# Altium integrated library TI_Logic_Universal_Bus_Function.IntLib: 113 symbols (part 5 of 5)
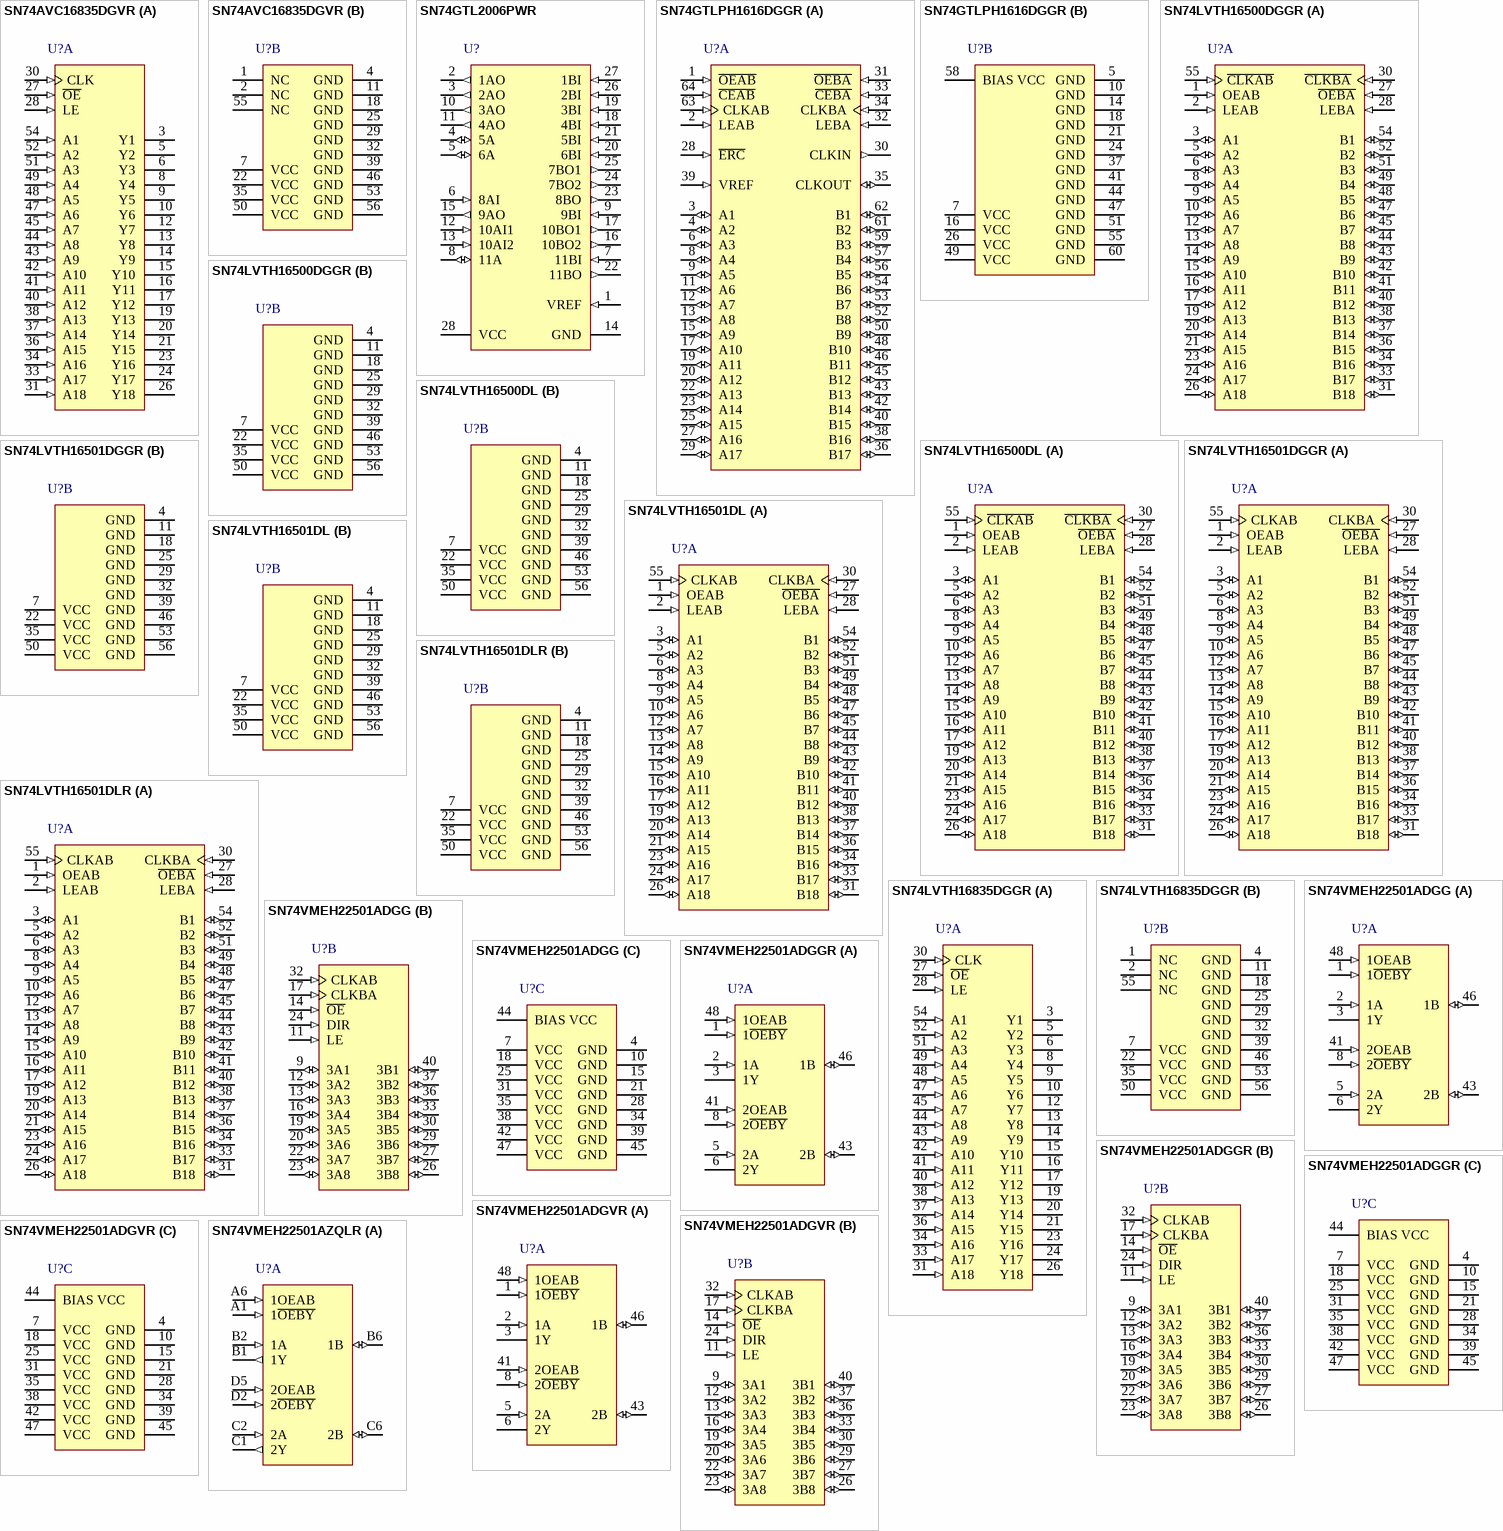
[diagram p13: symbols SN74AVC16835DGVR to SN74VMEH22501AZQLR]

## SN74LVTH16500DL
designator U?
3.3-V ABT 18-Bit Universal Bus Transceivers With 3-State Outputs, DL0056A, TUBE; Generic Part Number: SN74LVTH16500; Manufacturer: Texas Instruments; PartNumber: SN74LVTH16500DL; VCC(Min)(V): 2.7; VCC(Max)(V): 3.6; Output Type: CMOS; ICC @ Nom Voltage(Max)(mA): 5; Input Type: TTL/CMOS; Bits(#): 18; F @ Nom Voltage(Max)(Mhz): 160; Rating: Catalog; Technology Family: LVT; Voltage(Nom)(V): 3.3; Schmitt Trigger: No; Output Drive (IOL/IOH)(Max)(mA): 64/-32; tpd @ Nom Voltage(Max)(ns): 3.7; DatasheetVersion: SCBS701F; PackageReference: DL0056A; Supplier 1: Mouser; Supplier Part Number 1: 595-SN74LVTH16500DL; Supplier 2: Digi-Key; Supplier Part Number 2: 296-8690-5-ND; Operating Temperature Range(C): -40 to 85; ComponentLink1Description: Manufacturer URL; ComponentLink1URL: http://www.ti.com/; ComponentLink2Description: Datasheet; ComponentLink2URL: http://www.ti.com/lit/ds/symlink/sn74lvth16500.pdf
footprint DL0056A_N (SOP, 56-Leads, Body 7.6x18.5mm, Pitch 0.635mm, IPC Medium Density)
footprint DL0056A_M (SOP, 56-Leads, Body 7.6x18.5mm, Pitch 0.635mm, IPC Low Density)
footprint DL0056A_L (SOP, 56-Leads, Body 7.6x18.5mm, Pitch 0.635mm, IPC High Density)
part A pins: 1 OEAB (in), 2 LEAB (in), 3 A1 (io), 5 A2 (io), 6 A3 (io), 8 A4 (io), 9 A5 (io), 10 A6 (io), 12 A7 (io), 13 A8 (io), 14 A9 (io), 15 A10 (io), 16 A11 (io), 17 A12 (io), 19 A13 (io), 20 A14 (io), 21 A15 (io), 23 A16 (io), 24 A17 (io), 26 A18 (io), 27 ~{OEBA} (in), 28 LEBA (in), 30 ~{CLKBA} (in), 31 B18 (io), 33 B17 (io), 34 B16 (io), 36 B15 (io), 37 B14 (io), 38 B13 (io), 40 B12 (io), 41 B11 (io), 42 B10 (io), 43 B9 (io), 44 B8 (io), 45 B7 (io), 47 B6 (io), 48 B5 (io), 49 B4 (io), 51 B3 (io), 52 B2 (io), 54 B1 (io), 55 ~{CLKAB} (in)
part B pins: 4 GND (power), 7 VCC (power), 11 GND (power), 18 GND (power), 22 VCC (power), 25 GND (power), 29 GND (power), 32 GND (power), 35 VCC (power), 39 GND (power), 46 GND (power), 50 VCC (power), 53 GND (power), 56 GND (power)

## SN74LVTH16501DGGR
designator U?
3.3-V ABT 18-Bit Universal Bus Transceivers With 3-State Outputs, DGG0056A, LARGE T&R; Generic Part Number: SN74LVTH16501; Manufacturer: Texas Instruments; PartNumber: SN74LVTH16501DGGR; VCC(Min)(V): 2.7; VCC(Max)(V): 3.6; Output Type: CMOS; ICC @ Nom Voltage(Max)(mA): 5; Input Type: TTL/CMOS; Bits(#): 18; F @ Nom Voltage(Max)(Mhz): 160; Rating: Catalog; Technology Family: LVT; Voltage(Nom)(V): 3.3; Schmitt Trigger: No; Output Drive (IOL/IOH)(Max)(mA): 64/-32; tpd @ Nom Voltage(Max)(ns): 3.7; DatasheetVersion: SCBS700F; PackageReference: DGG0056A; Supplier 1: Mouser; Supplier Part Number 1: 595-SNLVTH16501DGGR; Supplier 2: Digi-Key; Supplier Part Number 2: 296-8691-2-ND; Supplier 3: Digi-Key; Supplier Part Number 3: 296-8691-1-ND; Supplier 4: Digi-Key; Supplier Part Number 4: 296-8691-6-ND; Operating Temperature Range(C): -40 to 85; ComponentLink1Description: Manufacturer URL; ComponentLink1URL: http://www.ti.com/; ComponentLink2Description: Datasheet; ComponentLink2URL: http://www.ti.com/lit/ds/symlink/sn74lvth16501.pdf
footprint DGG0056A_N (TSSOP, 56-Leads, Body 14.1x6.2mm, Pitch 0.5mm, IPC Medium Density)
footprint DGG0056A_M (TSSOP, 56-Leads, Body 14.1x6.2mm, Pitch 0.5mm, IPC Low Density)
footprint DGG0056A_L (TSSOP, 56-Leads, Body 14.1x6.2mm, Pitch 0.5mm, IPC High Density)
part A pins: 1 OEAB (in), 2 LEAB (in), 3 A1 (io), 5 A2 (io), 6 A3 (io), 8 A4 (io), 9 A5 (io), 10 A6 (io), 12 A7 (io), 13 A8 (io), 14 A9 (io), 15 A10 (io), 16 A11 (io), 17 A12 (io), 19 A13 (io), 20 A14 (io), 21 A15 (io), 23 A16 (io), 24 A17 (io), 26 A18 (io), 27 ~{OEBA} (in), 28 LEBA (in), 30 CLKBA (in), 31 B18 (io), 33 B17 (io), 34 B16 (io), 36 B15 (io), 37 B14 (io), 38 B13 (io), 40 B12 (io), 41 B11 (io), 42 B10 (io), 43 B9 (io), 44 B8 (io), 45 B7 (io), 47 B6 (io), 48 B5 (io), 49 B4 (io), 51 B3 (io), 52 B2 (io), 54 B1 (io), 55 CLKAB (in)
part B pins: 4 GND (power), 7 VCC (power), 11 GND (power), 18 GND (power), 22 VCC (power), 25 GND (power), 29 GND (power), 32 GND (power), 35 VCC (power), 39 GND (power), 46 GND (power), 50 VCC (power), 53 GND (power), 56 GND (power)

## SN74LVTH16501DL
designator U?
3.3-V ABT 18-Bit Universal Bus Transceivers With 3-State Outputs, DL0056A, TUBE; Generic Part Number: SN74LVTH16501; Manufacturer: Texas Instruments; PartNumber: SN74LVTH16501DL; VCC(Min)(V): 2.7; VCC(Max)(V): 3.6; Output Type: CMOS; ICC @ Nom Voltage(Max)(mA): 5; Input Type: TTL/CMOS; Bits(#): 18; F @ Nom Voltage(Max)(Mhz): 160; Rating: Catalog; Technology Family: LVT; Voltage(Nom)(V): 3.3; Schmitt Trigger: No; Output Drive (IOL/IOH)(Max)(mA): 64/-32; tpd @ Nom Voltage(Max)(ns): 3.7; DatasheetVersion: SCBS700F; PackageReference: DL0056A; Supplier 1: Mouser; Supplier Part Number 1: 595-SN74LVTH16501DL; Supplier 2: Digi-Key; Supplier Part Number 2: 296-8692-5-ND; Operating Temperature Range(C): -40 to 85; ComponentLink1Description: Manufacturer URL; ComponentLink1URL: http://www.ti.com/; ComponentLink2Description: Datasheet; ComponentLink2URL: http://www.ti.com/lit/ds/symlink/sn74lvth16501.pdf
footprint DL0056A_N (SOP, 56-Leads, Body 7.6x18.5mm, Pitch 0.635mm, IPC Medium Density)
footprint DL0056A_M (SOP, 56-Leads, Body 7.6x18.5mm, Pitch 0.635mm, IPC Low Density)
footprint DL0056A_L (SOP, 56-Leads, Body 7.6x18.5mm, Pitch 0.635mm, IPC High Density)
part A pins: 1 OEAB (in), 2 LEAB (in), 3 A1 (io), 5 A2 (io), 6 A3 (io), 8 A4 (io), 9 A5 (io), 10 A6 (io), 12 A7 (io), 13 A8 (io), 14 A9 (io), 15 A10 (io), 16 A11 (io), 17 A12 (io), 19 A13 (io), 20 A14 (io), 21 A15 (io), 23 A16 (io), 24 A17 (io), 26 A18 (io), 27 ~{OEBA} (in), 28 LEBA (in), 30 CLKBA (in), 31 B18 (io), 33 B17 (io), 34 B16 (io), 36 B15 (io), 37 B14 (io), 38 B13 (io), 40 B12 (io), 41 B11 (io), 42 B10 (io), 43 B9 (io), 44 B8 (io), 45 B7 (io), 47 B6 (io), 48 B5 (io), 49 B4 (io), 51 B3 (io), 52 B2 (io), 54 B1 (io), 55 CLKAB (in)
part B pins: 4 GND (power), 7 VCC (power), 11 GND (power), 18 GND (power), 22 VCC (power), 25 GND (power), 29 GND (power), 32 GND (power), 35 VCC (power), 39 GND (power), 46 GND (power), 50 VCC (power), 53 GND (power), 56 GND (power)

## SN74LVTH16501DLR
designator U?
3.3-V ABT 18-Bit Universal Bus Transceivers With 3-State Outputs, DL0056A, LARGE T&R; Generic Part Number: SN74LVTH16501; Manufacturer: Texas Instruments; PartNumber: SN74LVTH16501DLR; VCC(Min)(V): 2.7; VCC(Max)(V): 3.6; Output Type: CMOS; ICC @ Nom Voltage(Max)(mA): 5; Input Type: TTL/CMOS; Bits(#): 18; F @ Nom Voltage(Max)(Mhz): 160; Rating: Catalog; Technology Family: LVT; Voltage(Nom)(V): 3.3; Schmitt Trigger: No; Output Drive (IOL/IOH)(Max)(mA): 64/-32; tpd @ Nom Voltage(Max)(ns): 3.7; DatasheetVersion: SCBS700F; PackageReference: DL0056A; Supplier 1: Mouser; Supplier Part Number 1: 595-SN74LVTH16501DLR; Supplier 2: Digi-Key; Supplier Part Number 2: 296-14930-2-ND; Supplier 3: Digi-Key; Supplier Part Number 3: 296-14930-1-ND; Supplier 4: Digi-Key; Supplier Part Number 4: 296-14930-6-ND; Operating Temperature Range(C): -40 to 85; ComponentLink1Description: Manufacturer URL; ComponentLink1URL: http://www.ti.com/; ComponentLink2Description: Datasheet; ComponentLink2URL: http://www.ti.com/lit/ds/symlink/sn74lvth16501.pdf
footprint DL0056A_N (SOP, 56-Leads, Body 7.6x18.5mm, Pitch 0.635mm, IPC Medium Density)
footprint DL0056A_M (SOP, 56-Leads, Body 7.6x18.5mm, Pitch 0.635mm, IPC Low Density)
footprint DL0056A_L (SOP, 56-Leads, Body 7.6x18.5mm, Pitch 0.635mm, IPC High Density)
part A pins: 1 OEAB (in), 2 LEAB (in), 3 A1 (io), 5 A2 (io), 6 A3 (io), 8 A4 (io), 9 A5 (io), 10 A6 (io), 12 A7 (io), 13 A8 (io), 14 A9 (io), 15 A10 (io), 16 A11 (io), 17 A12 (io), 19 A13 (io), 20 A14 (io), 21 A15 (io), 23 A16 (io), 24 A17 (io), 26 A18 (io), 27 ~{OEBA} (in), 28 LEBA (in), 30 CLKBA (in), 31 B18 (io), 33 B17 (io), 34 B16 (io), 36 B15 (io), 37 B14 (io), 38 B13 (io), 40 B12 (io), 41 B11 (io), 42 B10 (io), 43 B9 (io), 44 B8 (io), 45 B7 (io), 47 B6 (io), 48 B5 (io), 49 B4 (io), 51 B3 (io), 52 B2 (io), 54 B1 (io), 55 CLKAB (in)
part B pins: 4 GND (power), 7 VCC (power), 11 GND (power), 18 GND (power), 22 VCC (power), 25 GND (power), 29 GND (power), 32 GND (power), 35 VCC (power), 39 GND (power), 46 GND (power), 50 VCC (power), 53 GND (power), 56 GND (power)

## SN74LVTH16835DGGR
designator U?
3.3-V ABT 18-Bit Universal Bus Drivers With 3-State Outputs, DGG0056A, LARGE T&R; Generic Part Number: SN74LVTH16835; Manufacturer: Texas Instruments; PartNumber: SN74LVTH16835DGGR; VCC(Min)(V): 2.7; VCC(Max)(V): 3.6; Output Type: CMOS; ICC @ Nom Voltage(Max)(mA): 5; Input Type: LVTTL/CMOS; Bits(#): 18; F @ Nom Voltage(Max)(Mhz): 160; Rating: Catalog; Technology Family: LVT; Voltage(Nom)(V): 2.5,3.3; DatasheetVersion: SCBS713C; PackageReference: DGG0056A; Operating Temperature Range(C): -40 to 85; Code_JEDEC: MO-153; ComponentLink1Description: Manufacturer URL; ComponentLink1URL: http://www.ti.com/; ComponentLink2Description: Datasheet; ComponentLink2URL: http://www.ti.com/lit/ds/symlink/sn74lvth16835.pdf; ComponentLink3Description: Package Specification; ComponentLink3URL: http://www.ti.com/lit/ml/mtss003d/mtss003d.pdf
footprint DGG0056A_N (TSSOP, 56-Leads, Body 14.1x6.2mm, Pitch 0.5mm, IPC Medium Density)
footprint DGG0056A_M (TSSOP, 56-Leads, Body 14.1x6.2mm, Pitch 0.5mm, IPC Low Density)
footprint DGG0056A_L (TSSOP, 56-Leads, Body 14.1x6.2mm, Pitch 0.5mm, IPC High Density)
part A pins: 3 Y1 (hiz), 5 Y2 (hiz), 6 Y3 (hiz), 8 Y4 (hiz), 9 Y5 (hiz), 10 Y6 (hiz), 12 Y7 (hiz), 13 Y8 (hiz), 14 Y9 (hiz), 15 Y10 (hiz), 16 Y11 (hiz), 17 Y12 (hiz), 19 Y13 (hiz), 20 Y14 (hiz), 21 Y15 (hiz), 23 Y16 (hiz), 24 Y17 (hiz), 26 Y18 (hiz), 27 ~{OE} (in), 28 LE (in), 30 CLK (in), 31 A18 (in), 33 A17 (in), 34 A16 (in), 36 A15 (in), 37 A14 (in), 38 A13 (in), 40 A12 (in), 41 A11 (in), 42 A10 (in), 43 A9 (in), 44 A8 (in), 45 A7 (in), 47 A6 (in), 48 A5 (in), 49 A4 (in), 51 A3 (in), 52 A2 (in), 54 A1 (in)
part B pins: 1 NC, 2 NC, 4 GND (power), 7 VCC (power), 11 GND (power), 18 GND (power), 22 VCC (power), 25 GND (power), 29 GND (power), 32 GND (power), 35 VCC (power), 39 GND (power), 46 GND (power), 50 VCC (power), 53 GND (power), 55 NC, 56 GND (power)

## SN74VMEH22501ADGG
designator U?
8-Bit Universal Bus Transceiver and Two 1-Bit Bus Transceivers with 3-State Outputs, DGG0048A, TUBE; Generic Part Number: SN74VMEH22501A; Manufacturer: Texas Instruments; PartNumber: SN74VMEH22501ADGG; VCC(Min)(V): 3.15; VCC(Max)(V): 3.45; Output Type: LVTTL; Logic: True; Static Current: 30; Bits(#): 10; F @ Nom Voltage(Max)(Mhz): 120; Rating: Catalog; Technology Family: VME; Voltage(Nom)(V): 3.3; Schmitt Trigger: No; Output Drive (IOL/IOH)(Max)(mA): -12/12; tpd @ Nom Voltage(Max)(ns): 8.9; DatasheetVersion: SCES3620A; PackageReference: DGG0048A; Supplier 1: Mouser; Supplier Part Number 1: N/A; ICC @ Nom Voltage(Max)(mA): 30; Input Type: LVTTL; Operating Temperature Range(C): -40 to 85; ComponentLink1Description: Manufacturer URL; ComponentLink1URL: http://www.ti.com/; ComponentLink2Description: Datasheet; ComponentLink2URL: http://www.ti.com/lit/ds/symlink/sn74vmeh22501a.pdf
footprint DGG0048A_N (TSSOP, 48-Leads, Body 12.6x6.2mm, Pitch 0.5mm, IPC Medium Density)
footprint DGG0048A_M (TSSOP, 48-Leads, Body 12.6x6.2mm, Pitch 0.5mm, IPC Low Density)
footprint DGG0048A_L (TSSOP, 48-Leads, Body 12.6x6.2mm, Pitch 0.5mm, IPC High Density)
part A pins: 1 1~{OEBY} (in), 2 1A (in), 3 1Y (hiz), 5 2A (in), 6 2Y (hiz), 8 2~{OEBY} (in), 41 2OEAB (in), 43 2B (io), 46 1B (io), 48 1OEAB (in)
part B pins: 9 3A1 (io), 11 LE (in), 12 3A2 (io), 13 3A3 (io), 14 ~{OE} (in), 16 3A4 (io), 17 CLKBA (in), 19 3A5 (io), 20 3A6 (io), 22 3A7 (io), 23 3A8 (io), 24 DIR (in), 26 3B8 (io), 27 3B7 (io), 29 3B6 (io), 30 3B5 (io), 32 CLKAB (in), 33 3B4 (io), 36 3B3 (io), 37 3B2 (io), 40 3B1 (io)
part C pins: 4 GND (power), 7 VCC (power), 10 GND (power), 15 GND (power), 18 VCC (power), 21 GND (power), 25 VCC (power), 28 GND (power), 31 VCC (power), 34 GND (power), 35 VCC (power), 38 VCC (power), 39 GND (power), 42 VCC (power), 44 BIAS VCC (power), 45 GND (power), 47 VCC (power)

## SN74VMEH22501ADGGR
designator U?
8-Bit Universal Bus Transceiver and Two 1-Bit Bus Transceivers with 3-State Outputs, DGG0048A, LARGE T&R; Generic Part Number: SN74VMEH22501A; Manufacturer: Texas Instruments; PartNumber: SN74VMEH22501ADGGR; VCC(Min)(V): 3.15; VCC(Max)(V): 3.45; Output Type: LVTTL; Logic: True; Static Current: 30; Bits(#): 10; F @ Nom Voltage(Max)(Mhz): 120; Rating: Catalog; Technology Family: VME; Voltage(Nom)(V): 3.3; Schmitt Trigger: No; Output Drive (IOL/IOH)(Max)(mA): -12/12; tpd @ Nom Voltage(Max)(ns): 8.9; DatasheetVersion: SCES3620A; PackageReference: DGG0048A; Supplier 1: Mouser; Supplier Part Number 1: 595-SN74VMEH22501AGR; Supplier 2: Digi-Key; Supplier Part Number 2: 296-17565-2-ND; Supplier 3: Digi-Key; Supplier Part Number 3: 296-17565-1-ND; Supplier 4: Digi-Key; Supplier Part Number 4: 296-17565-6-ND; ICC @ Nom Voltage(Max)(mA): 30; Input Type: LVTTL; Operating Temperature Range(C): -40 to 85; ComponentLink1Description: Manufacturer URL; ComponentLink1URL: http://www.ti.com/; ComponentLink2Description: Datasheet; ComponentLink2URL: http://www.ti.com/lit/ds/symlink/sn74vmeh22501a.pdf
footprint DGG0048A_N (TSSOP, 48-Leads, Body 12.6x6.2mm, Pitch 0.5mm, IPC Medium Density)
footprint DGG0048A_M (TSSOP, 48-Leads, Body 12.6x6.2mm, Pitch 0.5mm, IPC Low Density)
footprint DGG0048A_L (TSSOP, 48-Leads, Body 12.6x6.2mm, Pitch 0.5mm, IPC High Density)
part A pins: 1 1~{OEBY} (in), 2 1A (in), 3 1Y (hiz), 5 2A (in), 6 2Y (hiz), 8 2~{OEBY} (in), 41 2OEAB (in), 43 2B (io), 46 1B (io), 48 1OEAB (in)
part B pins: 9 3A1 (io), 11 LE (in), 12 3A2 (io), 13 3A3 (io), 14 ~{OE} (in), 16 3A4 (io), 17 CLKBA (in), 19 3A5 (io), 20 3A6 (io), 22 3A7 (io), 23 3A8 (io), 24 DIR (in), 26 3B8 (io), 27 3B7 (io), 29 3B6 (io), 30 3B5 (io), 32 CLKAB (in), 33 3B4 (io), 36 3B3 (io), 37 3B2 (io), 40 3B1 (io)
part C pins: 4 GND (power), 7 VCC (power), 10 GND (power), 15 GND (power), 18 VCC (power), 21 GND (power), 25 VCC (power), 28 GND (power), 31 VCC (power), 34 GND (power), 35 VCC (power), 38 VCC (power), 39 GND (power), 42 VCC (power), 44 BIAS VCC (power), 45 GND (power), 47 VCC (power)

## SN74VMEH22501ADGVR
designator U?
8-Bit Universal Bus Transceiver and Two 1-Bit Bus Transceivers with 3-State Outputs, DGV0048A, LARGE T&R; Generic Part Number: SN74VMEH22501A; Manufacturer: Texas Instruments; PartNumber: SN74VMEH22501ADGVR; VCC(Min)(V): 3.15; VCC(Max)(V): 3.45; Output Type: LVTTL; Logic: True; Static Current: 30; Bits(#): 10; F @ Nom Voltage(Max)(Mhz): 120; Rating: Catalog; Technology Family: VME; Voltage(Nom)(V): 3.3; Schmitt Trigger: No; Output Drive (IOL/IOH)(Max)(mA): -12/12; tpd @ Nom Voltage(Max)(ns): 8.9; DatasheetVersion: SCES3620A; PackageReference: DGV0048A; Supplier 1: Mouser; Supplier Part Number 1: 595-SN74VMEH22501ADG; Supplier 2: Digi-Key; Supplier Part Number 2: 296-17566-2-ND; Supplier 3: Digi-Key; Supplier Part Number 3: 296-17566-1-ND; Supplier 4: Digi-Key; Supplier Part Number 4: 296-17566-6-ND; ICC @ Nom Voltage(Max)(mA): 30; Input Type: LVTTL; Operating Temperature Range(C): -40 to 85; ComponentLink1Description: Manufacturer URL; ComponentLink1URL: http://www.ti.com/; ComponentLink2Description: Datasheet; ComponentLink2URL: http://www.ti.com/lit/ds/symlink/sn74vmeh22501a.pdf
footprint DGV0048A_N (SOP, 48-Leads, Body 4.5x9.8mm, Pitch 0.4mm, IPC Medium Density)
footprint DGV0048A_M (SOP, 48-Leads, Body 4.5x9.8mm, Pitch 0.4mm, IPC Low Density)
footprint DGV0048A_L (SOP, 48-Leads, Body 4.5x9.8mm, Pitch 0.4mm, IPC High Density)
part A pins: 1 1~{OEBY} (in), 2 1A (in), 3 1Y (hiz), 5 2A (in), 6 2Y (hiz), 8 2~{OEBY} (in), 41 2OEAB (in), 43 2B (io), 46 1B (io), 48 1OEAB (in)
part B pins: 9 3A1 (io), 11 LE (in), 12 3A2 (io), 13 3A3 (io), 14 ~{OE} (in), 16 3A4 (io), 17 CLKBA (in), 19 3A5 (io), 20 3A6 (io), 22 3A7 (io), 23 3A8 (io), 24 DIR (in), 26 3B8 (io), 27 3B7 (io), 29 3B6 (io), 30 3B5 (io), 32 CLKAB (in), 33 3B4 (io), 36 3B3 (io), 37 3B2 (io), 40 3B1 (io)
part C pins: 4 GND (power), 7 VCC (power), 10 GND (power), 15 GND (power), 18 VCC (power), 21 GND (power), 25 VCC (power), 28 GND (power), 31 VCC (power), 34 GND (power), 35 VCC (power), 38 VCC (power), 39 GND (power), 42 VCC (power), 44 BIAS VCC (power), 45 GND (power), 47 VCC (power)

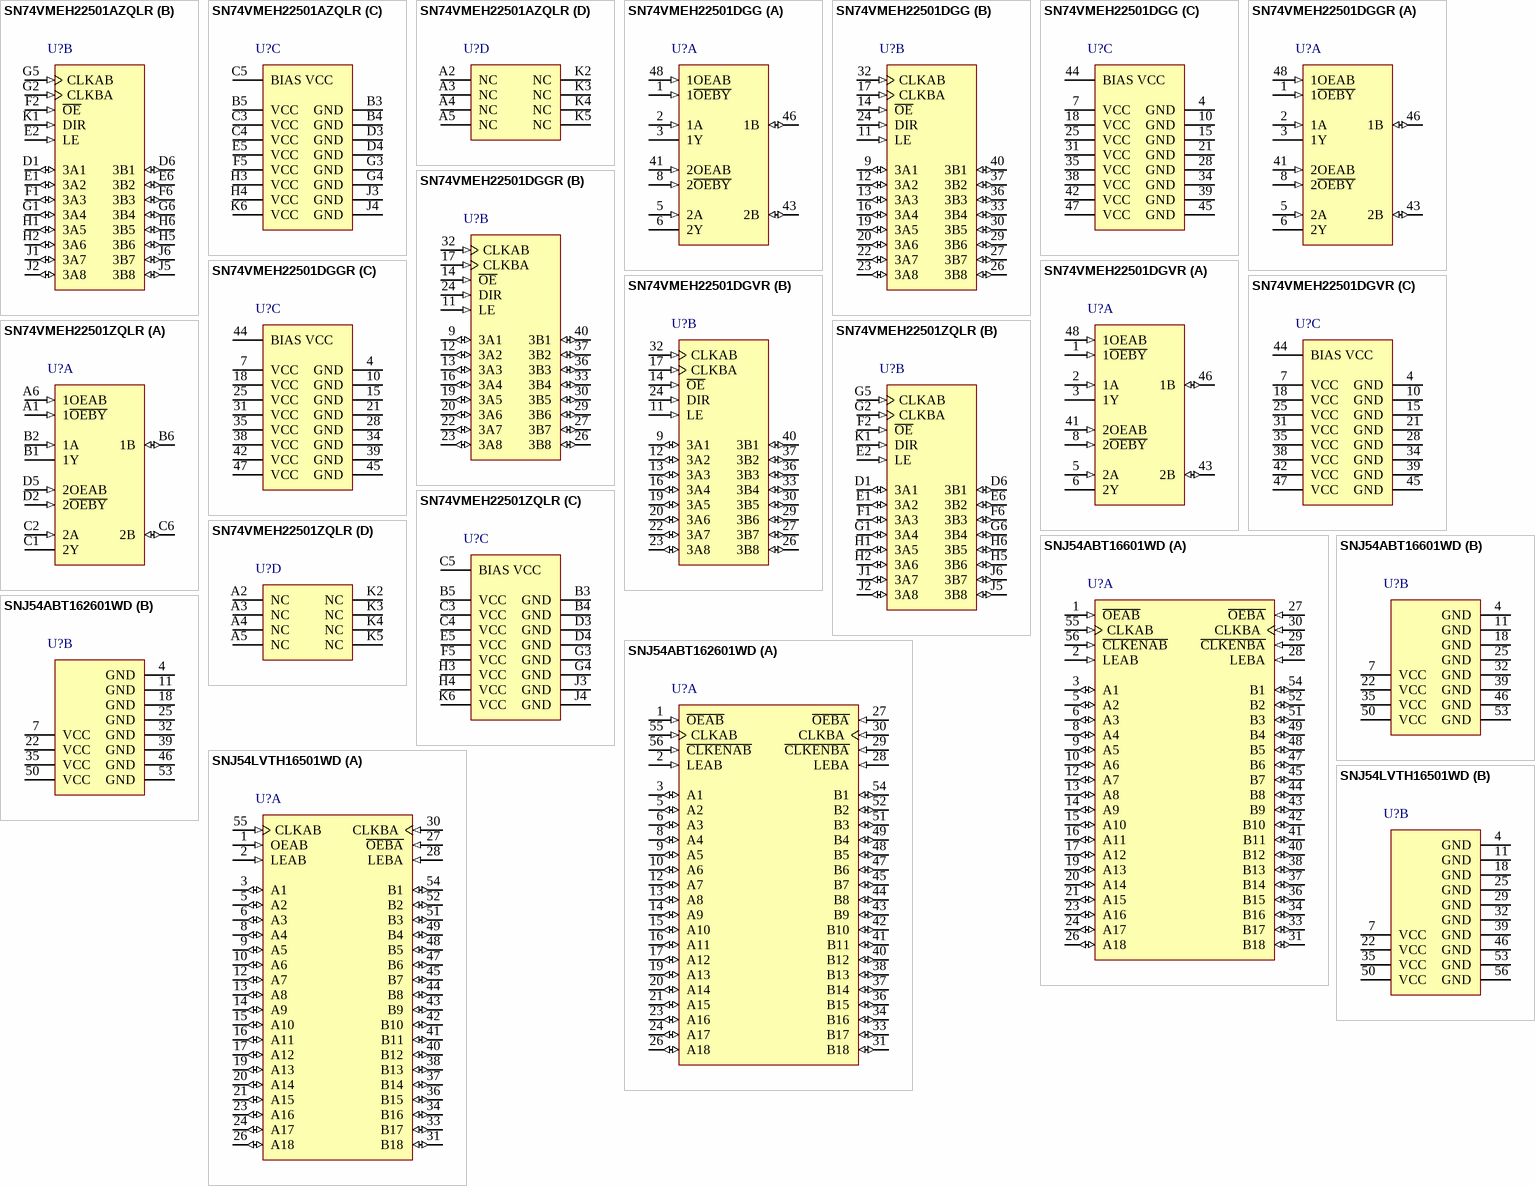
[diagram p9: symbols SN74VMEH22501AZQLR to SNJ54LVTH16501WD]

## SN74VMEH22501AZQLR
designator U?
8-Bit Universal Bus Transceiver and Two 1-Bit Bus Transceivers with 3-State Outputs, ZQL0056A, LARGE T&R; Generic Part Number: SN74VMEH22501A; Manufacturer: Texas Instruments; PartNumber: SN74VMEH22501AZQLR; VCC(Min)(V): 3.15; VCC(Max)(V): 3.45; Output Type: LVTTL; Logic: True; Static Current: 30; Bits(#): 10; F @ Nom Voltage(Max)(Mhz): 120; Rating: Catalog; Technology Family: VME; Voltage(Nom)(V): 3.3; Schmitt Trigger: No; Output Drive (IOL/IOH)(Max)(mA): -12/12; tpd @ Nom Voltage(Max)(ns): 8.9; DatasheetVersion: SCES3620A; PackageReference: ZQL0056A; Supplier 1: Mouser; Supplier Part Number 1: 595-SN74VMEH22501AZQ; Supplier 2: Digi-Key; Supplier Part Number 2: 296-23294-2-ND; Supplier 3: Digi-Key; Supplier Part Number 3: 296-23294-1-ND; Supplier 4: Digi-Key; Supplier Part Number 4: 296-23294-6-ND; ICC @ Nom Voltage(Max)(mA): 30; Input Type: LVTTL; Operating Temperature Range(C): -40 to 85; ComponentLink1Description: Manufacturer URL; ComponentLink1URL: http://www.ti.com/; ComponentLink2Description: Datasheet; ComponentLink2URL: http://www.ti.com/lit/ds/symlink/sn74vmeh22501a.pdf
footprint ZQL0056A (BGA, 56-Balls, Body 7x4.5mm, Pitch 0.65mm)
part A pins: A1 1~{OEBY} (in), A6 1OEAB (in), B1 1Y (out), B2 1A (in), B6 1B (io), C1 2Y (out), C2 2A (in), C6 2B (io), D2 2~{OEBY} (in), D5 2OEAB (in)
part B pins: D1 3A1 (io), D6 3B1 (io), E1 3A2 (io), E2 LE (in), E6 3B2 (io), F1 3A3 (io), F2 ~{OE} (in), F6 3B3 (io), G1 3A4 (io), G2 CLKBA (in), G5 CLKAB (in), G6 3B4 (io), H1 3A5 (io), H2 3A6 (io), H5 3B6 (io), H6 3B5 (io), J1 3A7 (io), J2 3A8 (io), J5 3B8 (io), J6 3B7 (io), K1 DIR (in)
part C pins: B3 GND (power), B4 GND (power), B5 VCC (power), C3 VCC (power), C4 VCC (power), C5 BIAS VCC (power), D3 GND (power), D4 GND (power), E5 VCC (power), F5 VCC (power), G3 GND (power), G4 GND (power), H3 VCC (power), H4 VCC (power), J3 GND (power), J4 GND (power), K6 VCC (power)
part D pins: A2 NC, A3 NC, A4 NC, A5 NC, K2 NC, K3 NC, K4 NC, K5 NC

## SN74VMEH22501DGG
designator U?
8-Bit Universal Bus Transceiver and Two 1-Bit Bus Transceivers with 3-State Outputs, DGG0048A, TUBE; Generic Part Number: SN74VMEH22501; Manufacturer: Texas Instruments; PartNumber: SN74VMEH22501DGG; VCC(Min)(V): 3.15; VCC(Max)(V): 3.45; Output Type: LVTTL; Logic: True; Static Current: 30; Bits(#): 10; F @ Nom Voltage(Max)(Mhz): 120; Rating: Catalog; Technology Family: VME; Voltage(Nom)(V): 3.3; Schmitt Trigger: No; Output Drive (IOL/IOH)(Max)(mA): -12/12; tpd @ Nom Voltage(Max)(ns): 8.9; DatasheetVersion: SCES357F; PackageReference: DGG0048A; Supplier 1: Mouser; Supplier Part Number 1: N/A; ICC @ Nom Voltage(Max)(mA): 30; Input Type: LVTTL; Operating Temperature Range(C): -40 to 85,0 to 85; ComponentLink1Description: Manufacturer URL; ComponentLink1URL: http://www.ti.com/; ComponentLink2Description: Datasheet; ComponentLink2URL: http://www.ti.com/lit/ds/symlink/sn74vmeh22501.pdf
footprint DGG0048A_N (TSSOP, 48-Leads, Body 12.6x6.2mm, Pitch 0.5mm, IPC Medium Density)
footprint DGG0048A_M (TSSOP, 48-Leads, Body 12.6x6.2mm, Pitch 0.5mm, IPC Low Density)
footprint DGG0048A_L (TSSOP, 48-Leads, Body 12.6x6.2mm, Pitch 0.5mm, IPC High Density)
part A pins: 1 1~{OEBY} (in), 2 1A (in), 3 1Y (hiz), 5 2A (in), 6 2Y (hiz), 8 2~{OEBY} (in), 41 2OEAB (in), 43 2B (io), 46 1B (io), 48 1OEAB (in)
part B pins: 9 3A1 (io), 11 LE (in), 12 3A2 (io), 13 3A3 (io), 14 ~{OE} (in), 16 3A4 (io), 17 CLKBA (in), 19 3A5 (io), 20 3A6 (io), 22 3A7 (io), 23 3A8 (io), 24 DIR (in), 26 3B8 (io), 27 3B7 (io), 29 3B6 (io), 30 3B5 (io), 32 CLKAB (in), 33 3B4 (io), 36 3B3 (io), 37 3B2 (io), 40 3B1 (io)
part C pins: 4 GND (power), 7 VCC (power), 10 GND (power), 15 GND (power), 18 VCC (power), 21 GND (power), 25 VCC (power), 28 GND (power), 31 VCC (power), 34 GND (power), 35 VCC (power), 38 VCC (power), 39 GND (power), 42 VCC (power), 44 BIAS VCC (power), 45 GND (power), 47 VCC (power)

## SN74VMEH22501DGGR
designator U?
8-Bit Universal Bus Transceiver and Two 1-Bit Bus Transceivers with 3-State Outputs, DGG0048A, LARGE T&R; Generic Part Number: SN74VMEH22501; Manufacturer: Texas Instruments; PartNumber: SN74VMEH22501DGGR; VCC(Min)(V): 3.15; VCC(Max)(V): 3.45; Output Type: LVTTL; Logic: True; Static Current: 30; Bits(#): 10; F @ Nom Voltage(Max)(Mhz): 120; Rating: Catalog; Technology Family: VME; Voltage(Nom)(V): 3.3; Schmitt Trigger: No; Output Drive (IOL/IOH)(Max)(mA): -12/12; tpd @ Nom Voltage(Max)(ns): 8.9; DatasheetVersion: SCES357F; PackageReference: DGG0048A; Supplier 1: Mouser; Supplier Part Number 1: 595-74VMEH22501DGGR; Supplier 2: Digi-Key; Supplier Part Number 2: 296-13309-2-ND; Supplier 3: Digi-Key; Supplier Part Number 3: 296-13309-1-ND; Supplier 4: Digi-Key; Supplier Part Number 4: 296-13309-6-ND; ICC @ Nom Voltage(Max)(mA): 30; Input Type: LVTTL; Operating Temperature Range(C): -40 to 85,0 to 85; ComponentLink1Description: Manufacturer URL; ComponentLink1URL: http://www.ti.com/; ComponentLink2Description: Datasheet; ComponentLink2URL: http://www.ti.com/lit/ds/symlink/sn74vmeh22501.pdf
footprint DGG0048A_N (TSSOP, 48-Leads, Body 12.6x6.2mm, Pitch 0.5mm, IPC Medium Density)
footprint DGG0048A_M (TSSOP, 48-Leads, Body 12.6x6.2mm, Pitch 0.5mm, IPC Low Density)
footprint DGG0048A_L (TSSOP, 48-Leads, Body 12.6x6.2mm, Pitch 0.5mm, IPC High Density)
part A pins: 1 1~{OEBY} (in), 2 1A (in), 3 1Y (hiz), 5 2A (in), 6 2Y (hiz), 8 2~{OEBY} (in), 41 2OEAB (in), 43 2B (io), 46 1B (io), 48 1OEAB (in)
part B pins: 9 3A1 (io), 11 LE (in), 12 3A2 (io), 13 3A3 (io), 14 ~{OE} (in), 16 3A4 (io), 17 CLKBA (in), 19 3A5 (io), 20 3A6 (io), 22 3A7 (io), 23 3A8 (io), 24 DIR (in), 26 3B8 (io), 27 3B7 (io), 29 3B6 (io), 30 3B5 (io), 32 CLKAB (in), 33 3B4 (io), 36 3B3 (io), 37 3B2 (io), 40 3B1 (io)
part C pins: 4 GND (power), 7 VCC (power), 10 GND (power), 15 GND (power), 18 VCC (power), 21 GND (power), 25 VCC (power), 28 GND (power), 31 VCC (power), 34 GND (power), 35 VCC (power), 38 VCC (power), 39 GND (power), 42 VCC (power), 44 BIAS VCC (power), 45 GND (power), 47 VCC (power)

## SN74VMEH22501DGVR
designator U?
8-Bit Universal Bus Transceiver and Two 1-Bit Bus Transceivers with 3-State Outputs, DGV0048A, LARGE T&R; Generic Part Number: SN74VMEH22501; Manufacturer: Texas Instruments; PartNumber: SN74VMEH22501DGVR; VCC(Min)(V): 3.15; VCC(Max)(V): 3.45; Output Type: LVTTL; Logic: True; Static Current: 30; Bits(#): 10; F @ Nom Voltage(Max)(Mhz): 120; Rating: Catalog; Technology Family: VME; Voltage(Nom)(V): 3.3; Schmitt Trigger: No; Output Drive (IOL/IOH)(Max)(mA): -12/12; tpd @ Nom Voltage(Max)(ns): 8.9; DatasheetVersion: SCES357F; PackageReference: DGV0048A; Supplier 1: Mouser; Supplier Part Number 1: 595-74VMEH22501DGVR; Supplier 2: Digi-Key; Supplier Part Number 2: 296-13310-2-ND; Supplier 3: Digi-Key; Supplier Part Number 3: 296-13310-1-ND; Supplier 4: Digi-Key; Supplier Part Number 4: 296-13310-6-ND; ICC @ Nom Voltage(Max)(mA): 30; Input Type: LVTTL; Operating Temperature Range(C): -40 to 85,0 to 85; ComponentLink1Description: Manufacturer URL; ComponentLink1URL: http://www.ti.com/; ComponentLink2Description: Datasheet; ComponentLink2URL: http://www.ti.com/lit/ds/symlink/sn74vmeh22501.pdf
footprint DGV0048A_N (SOP, 48-Leads, Body 4.5x9.8mm, Pitch 0.4mm, IPC Medium Density)
footprint DGV0048A_M (SOP, 48-Leads, Body 4.5x9.8mm, Pitch 0.4mm, IPC Low Density)
footprint DGV0048A_L (SOP, 48-Leads, Body 4.5x9.8mm, Pitch 0.4mm, IPC High Density)
part A pins: 1 1~{OEBY} (in), 2 1A (in), 3 1Y (hiz), 5 2A (in), 6 2Y (hiz), 8 2~{OEBY} (in), 41 2OEAB (in), 43 2B (io), 46 1B (io), 48 1OEAB (in)
part B pins: 9 3A1 (io), 11 LE (in), 12 3A2 (io), 13 3A3 (io), 14 ~{OE} (in), 16 3A4 (io), 17 CLKBA (in), 19 3A5 (io), 20 3A6 (io), 22 3A7 (io), 23 3A8 (io), 24 DIR (in), 26 3B8 (io), 27 3B7 (io), 29 3B6 (io), 30 3B5 (io), 32 CLKAB (in), 33 3B4 (io), 36 3B3 (io), 37 3B2 (io), 40 3B1 (io)
part C pins: 4 GND (power), 7 VCC (power), 10 GND (power), 15 GND (power), 18 VCC (power), 21 GND (power), 25 VCC (power), 28 GND (power), 31 VCC (power), 34 GND (power), 35 VCC (power), 38 VCC (power), 39 GND (power), 42 VCC (power), 44 BIAS VCC (power), 45 GND (power), 47 VCC (power)

## SN74VMEH22501ZQLR
designator U?
8-Bit Universal Bus Transceiver and Two 1-Bit Bus Transceivers with 3-State Outputs, ZQL0056A, LARGE T&R; Generic Part Number: SN74VMEH22501; Manufacturer: Texas Instruments; PartNumber: SN74VMEH22501ZQLR; VCC(Min)(V): 3.15; VCC(Max)(V): 3.45; Output Type: LVTTL; Logic: True; Static Current: 30; Bits(#): 10; F @ Nom Voltage(Max)(Mhz): 120; Rating: Catalog; Technology Family: VME; Voltage(Nom)(V): 3.3; Schmitt Trigger: No; Output Drive (IOL/IOH)(Max)(mA): -12/12; tpd @ Nom Voltage(Max)(ns): 8.9; DatasheetVersion: SCES357F; PackageReference: ZQL0056A; Supplier 1: Mouser; Supplier Part Number 1: 595-SN74VMEH22501ZQL; Supplier 2: Digi-Key; Supplier Part Number 2: 296-23112-2-ND; Supplier 3: Digi-Key; Supplier Part Number 3: 296-23112-1-ND; Supplier 4: Digi-Key; Supplier Part Number 4: 296-23112-6-ND; ICC @ Nom Voltage(Max)(mA): 30; Input Type: LVTTL; Operating Temperature Range(C): -40 to 85,0 to 85; ComponentLink1Description: Manufacturer URL; ComponentLink1URL: http://www.ti.com/; ComponentLink2Description: Datasheet; ComponentLink2URL: http://www.ti.com/lit/ds/symlink/sn74vmeh22501.pdf
footprint ZQL0056A (BGA, 56-Balls, Body 7x4.5mm, Pitch 0.65mm)
part A pins: A1 1~{OEBY} (in), A6 1OEAB (in), B1 1Y (hiz), B2 1A (in), B6 1B (io), C1 2Y (hiz), C2 2A (in), C6 2B (io), D2 2~{OEBY} (in), D5 2OEAB (in)
part B pins: D1 3A1 (io), D6 3B1 (io), E1 3A2 (io), E2 LE (in), E6 3B2 (io), F1 3A3 (io), F2 ~{OE} (in), F6 3B3 (io), G1 3A4 (io), G2 CLKBA (in), G5 CLKAB (in), G6 3B4 (io), H1 3A5 (io), H2 3A6 (io), H5 3B6 (io), H6 3B5 (io), J1 3A7 (io), J2 3A8 (io), J5 3B8 (io), J6 3B7 (io), K1 DIR (in)
part C pins: B3 GND (power), B4 GND (power), B5 VCC (power), C3 VCC (power), C4 VCC (power), C5 BIAS VCC (power), D3 GND (power), D4 GND (power), E5 VCC (power), F5 VCC (power), G3 GND (power), G4 GND (power), H3 VCC (power), H4 VCC (power), J3 GND (power), J4 GND (power), K6 VCC (power)
part D pins: A2 NC, A3 NC, A4 NC, A5 NC, K2 NC, K3 NC, K4 NC, K5 NC

## SNJ54ABT16601WD
designator U?
18-Bit Universal Bus Transceivers With 3-State Outputs, WD0056A, TUBE; Generic Part Number: SN54ABT16601; Manufacturer: Texas Instruments; PartNumber: SNJ54ABT16601WD; VCC(Min)(V): 4.5; VCC(Max)(V): 5.5; Output Type: TTL; Logic: True; Bits(#): 18; Rating: Military; Technology Family: ABT; Voltage(Nom)(V): 5; Schmitt Trigger: No; DatasheetVersion: SCBS210C; PackageReference: WD0056A; Input Type: TTL; Operating Temperature Range(C): -55 to 125; ComponentLink1Description: Manufacturer URL; ComponentLink1URL: http://www.ti.com/; ComponentLink2Description: Datasheet; ComponentLink2URL: http://www.ti.com/lit/ds/symlink/sn54abt16601.pdf
footprint WD0056A_N (CFP, 56-Leads, Body 18.03x9.91mm, Pitch 0.635mm, IPC Medium Density)
footprint WD0056A_M (CFP, 56-Leads, Body 18.03x9.91mm, Pitch 0.635mm, IPC Low Density)
footprint WD0056A_L (CFP, 56-Leads, Body 18.03x9.91mm, Pitch 0.635mm, IPC High Density)
part A pins: 1 ~{OEAB} (in), 2 LEAB (in), 3 A1 (io), 5 A2 (io), 6 A3 (io), 8 A4 (io), 9 A5 (io), 10 A6 (io), 12 A7 (io), 13 A8 (io), 14 A9 (io), 15 A10 (io), 16 A11 (io), 17 A12 (io), 19 A13 (io), 20 A14 (io), 21 A15 (io), 23 A16 (io), 24 A17 (io), 26 A18 (io), 27 ~{OEBA} (in), 28 LEBA (in), 29 ~{CLKENBA} (in), 30 CLKBA (in), 31 B18 (io), 33 B17 (io), 34 B16 (io), 36 B15 (io), 37 B14 (io), 38 B13 (io), 40 B12 (io), 41 B11 (io), 42 B10 (io), 43 B9 (io), 44 B8 (io), 45 B7 (io), 47 B6 (io), 48 B5 (io), 49 B4 (io), 51 B3 (io), 52 B2 (io), 54 B1 (io), 55 CLKAB (in), 56 ~{CLKENAB} (in)
part B pins: 4 GND (power), 7 VCC (power), 11 GND (power), 18 GND (power), 22 VCC (power), 25 GND (power), 32 GND (power), 35 VCC (power), 39 GND (power), 46 GND (power), 50 VCC (power), 53 GND (power)

## SNJ54ABT162601WD
designator U?
18-Bit Universal Bus Transceivers With 3-State Outputs, WD0056A, TUBE; Generic Part Number: SN54ABT162601; Manufacturer: Texas Instruments; PartNumber: SNJ54ABT162601WD; VCC(Min)(V): 4.5; VCC(Max)(V): 5.5; Output Type: TTL; Logic: True; Bits(#): 18; Rating: Military; Technology Family: ABT; Voltage(Nom)(V): 5; Schmitt Trigger: No; DatasheetVersion: SCBS247G; PackageReference: WD0056A; Input Type: TTL; Operating Temperature Range(C): -55 to 125; ComponentLink1Description: Manufacturer URL; ComponentLink1URL: http://www.ti.com/; ComponentLink2Description: Datasheet; ComponentLink2URL: http://www.ti.com/lit/ds/symlink/sn54abt162601.pdf
footprint WD0056A_N (CFP, 56-Leads, Body 18.03x9.91mm, Pitch 0.635mm, IPC Medium Density)
footprint WD0056A_M (CFP, 56-Leads, Body 18.03x9.91mm, Pitch 0.635mm, IPC Low Density)
footprint WD0056A_L (CFP, 56-Leads, Body 18.03x9.91mm, Pitch 0.635mm, IPC High Density)
part A pins: 1 ~{OEAB} (in), 2 LEAB (in), 3 A1 (io), 5 A2 (io), 6 A3 (io), 8 A4 (io), 9 A5 (io), 10 A6 (io), 12 A7 (io), 13 A8 (io), 14 A9 (io), 15 A10 (io), 16 A11 (io), 17 A12 (io), 19 A13 (io), 20 A14 (io), 21 A15 (io), 23 A16 (io), 24 A17 (io), 26 A18 (io), 27 ~{OEBA} (in), 28 LEBA (in), 29 ~{CLKENBA} (in), 30 CLKBA (in), 31 B18 (io), 33 B17 (io), 34 B16 (io), 36 B15 (io), 37 B14 (io), 38 B13 (io), 40 B12 (io), 41 B11 (io), 42 B10 (io), 43 B9 (io), 44 B8 (io), 45 B7 (io), 47 B6 (io), 48 B5 (io), 49 B4 (io), 51 B3 (io), 52 B2 (io), 54 B1 (io), 55 CLKAB (in), 56 ~{CLKENAB} (in)
part B pins: 4 GND (power), 7 VCC (power), 11 GND (power), 18 GND (power), 22 VCC (power), 25 GND (power), 32 GND (power), 35 VCC (power), 39 GND (power), 46 GND (power), 50 VCC (power), 53 GND (power)

## SNJ54LVTH16501WD
designator U?
3.3-V ABT 18-BIT UNIVERSAL BUS TRANSCEIVERS WITH 3-STATE OUTPUTS, WD0056A, TUBE; Generic Part Number: SN54LVTH16501; Manufacturer: Texas Instruments; PartNumber: SNJ54LVTH16501WD; VCC(Min)(V): 2.7; VCC(Max)(V): 3.6; Logic: True; Static Current: 5; Bits(#): 18; Rating: Military; Technology Family: LVT; Voltage(Nom)(V): 3.3; Schmitt Trigger: No; Output Drive (IOL/IOH)(Max)(mA): -24/+48; tpd @ Nom Voltage(Max)(ns): 4.3; DatasheetVersion: SCBS700F; PackageReference: WD0056A; Operating Temperature Range(C): -55 to 125; ComponentLink1Description: Manufacturer URL; ComponentLink1URL: http://www.ti.com/; ComponentLink2Description: Datasheet; ComponentLink2URL: http://www.ti.com/lit/ds/symlink/sn54lvth16501.pdf
footprint WD0056A_N (CFP, 56-Leads, Body 18.03x9.91mm, Pitch 0.635mm, IPC Medium Density)
footprint WD0056A_M (CFP, 56-Leads, Body 18.03x9.91mm, Pitch 0.635mm, IPC Low Density)
footprint WD0056A_L (CFP, 56-Leads, Body 18.03x9.91mm, Pitch 0.635mm, IPC High Density)
part A pins: 1 OEAB (in), 2 LEAB (in), 3 A1 (io), 5 A2 (io), 6 A3 (io), 8 A4 (io), 9 A5 (io), 10 A6 (io), 12 A7 (io), 13 A8 (io), 14 A9 (io), 15 A10 (io), 16 A11 (io), 17 A12 (io), 19 A13 (io), 20 A14 (io), 21 A15 (io), 23 A16 (io), 24 A17 (io), 26 A18 (io), 27 ~{OEBA} (in), 28 LEBA (in), 30 CLKBA (in), 31 B18 (io), 33 B17 (io), 34 B16 (io), 36 B15 (io), 37 B14 (io), 38 B13 (io), 40 B12 (io), 41 B11 (io), 42 B10 (io), 43 B9 (io), 44 B8 (io), 45 B7 (io), 47 B6 (io), 48 B5 (io), 49 B4 (io), 51 B3 (io), 52 B2 (io), 54 B1 (io), 55 CLKAB (in)
part B pins: 4 GND (power), 7 VCC (power), 11 GND (power), 18 GND (power), 22 VCC (power), 25 GND (power), 29 GND (power), 32 GND (power), 35 VCC (power), 39 GND (power), 46 GND (power), 50 VCC (power), 53 GND (power), 56 GND (power)